# Altium footprint library Samples.PcbLib: 1 footprints
Each footprint in its own frame and in the unit in brackets; x right, y up, seen from the top. Pads: shape width x height; smd on the part's side, far side on the other; paste and mask are expansions set on the pad; w line width, h text height; cw(c..) or ccw(c..) is an arc to the next point about the centre after c.
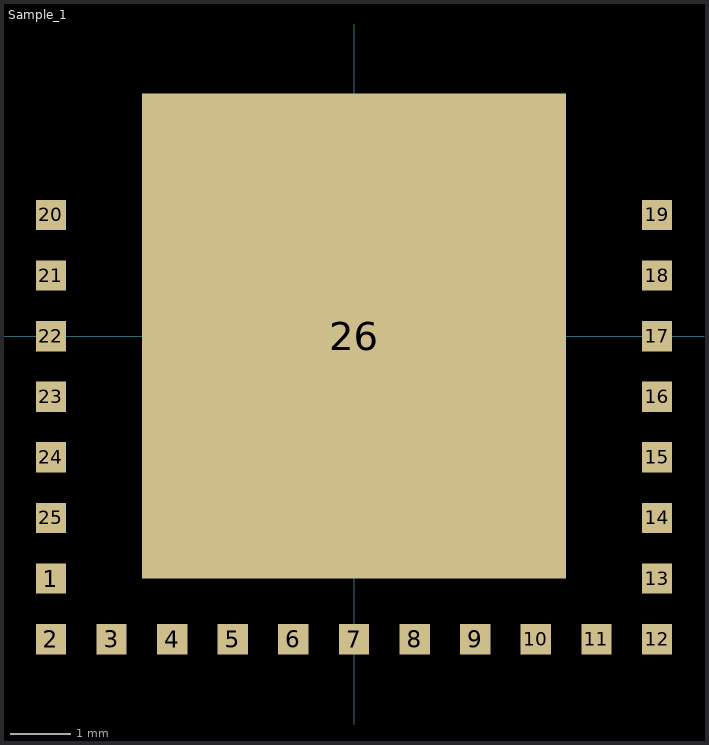
[diagram p0: the footprint, top view; thin cyan lines are the x and y axes]

## Sample_1 [mm]
pads (26):
  rect 0.5x0.5 smd: 1(-5,-4) 2(-5,-5) 3(-4,-5) 4(-3,-5) 5(-2,-5) 6(-1,-5) 7(0,-5) 8(1,-5) 9(2,-5) 10(3,-5) 11(4,-5) 12(5,-5) 13(5,-4) 14(5,-3) 15(5,-2) 16(5,-1) 17(5,0) 18(5,1) 19(5,2) 20(-5,2) 21(-5,1) 22(-5,0) 23(-5,-1) 24(-5,-2) 25(-5,-3)
  rect 7x8 smd: 26(0,0)